# EAGLE library part BMP280 (library BMP280)
Digital Pressure Sensor Source: Datasheet <https://ae-bst.resource.bosch.com/media/_tech/media/datasheets/BST-BMP280-DS001-19.pdf>
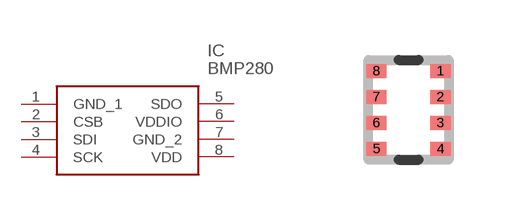
[diagram p0: symbol with the pads of 8-PIN-METAL-LID-LGA_1; footprint 8-PIN-METAL-LID-LGA_1]

Designator prefix IC

## BMP280 (Arrow_Part_Number: BMP280; Arrow_Price/Stock: https://www.arrow.com/en/products/bmp280/bosch; Description: Digital Pressure Sensor; Height: mm; Manufacturer_Name: Bosch; Manufacturer_Part_Number: BMP280)  [8-PIN-METAL-LID-LGA_1]
1  GND_1
2  CSB
3  SDI
4  SCK
5  SDO
6  VDDIO
7  GND_2
8  VDD

## Footprint 8-PIN-METAL-LID-LGA_1 (pad centres in mm)
8-pin-metal-lid-LGA_1
smd 0.5 x 0.35: 1 0.8,0.975; 2 0.8,0.325; 3 0.8,-0.325; 4 0.8,-0.975; 5 -0.8,-0.975; 6 -0.8,-0.325; 7 -0.8,0.325; 8 -0.8,0.975